# Altium schematic symbol library Mech,Standoff,M3,4mm,SMD.Schlib: 1 symbol
Pins are listed as number, name and electrical type; pins without a type are passive.

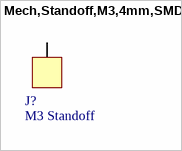
[diagram p0: symbol Mech,Standoff,M3,4mm,SMD]

## Mech,Standoff,M3,4mm,SMD
designator J?, comment M3 Standoff
Round Standoff Threaded M3x0.5 Steel 0.157" (4.00mm)
pins: 0 PIN